# EAGLE library part MS51XB9AE (library pimoroni-ics)
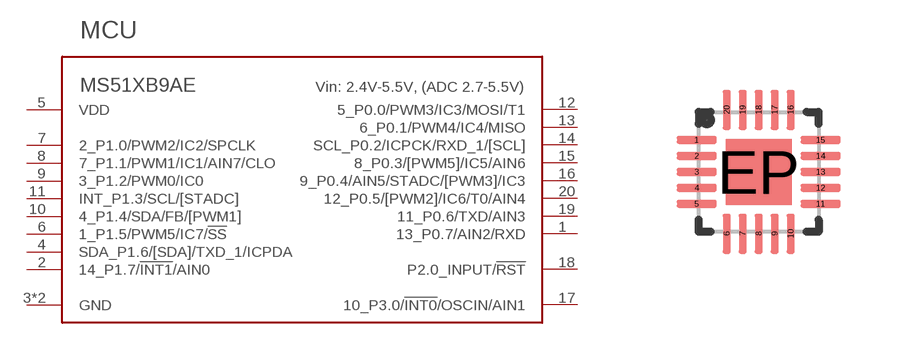
[diagram p64: symbol with the pads of QFN-20-0.4MM; footprint QFN-20-0.4MM]

Designator prefix MCU

## MS51XB9AE  [QFN-20-0.4MM]
1  13_P0.7/AIN2/RXD
2  14_P1.7/!INT1!/AIN0
3  GND
4  SDA_P1.6/[SDA]/TXD_1/ICPDA
5  VDD
6  1_P1.5/PWM5/IC7/!SS
7  2_P1.0/PWM2/IC2/SPCLK
8  7_P1.1/PWM1/IC1/AIN7/CLO
9  3_P1.2/PWM0/IC0
10  4_P1.4/SDA/FB/[PWM1]
11  INT_P1.3/SCL/[STADC]
12  5_P0.0/PWM3/IC3/MOSI/T1
13  6_P0.1/PWM4/IC4/MISO
14  SCL_P0.2/ICPCK/RXD_1/[SCL]
15  8_P0.3/[PWM5]/IC5/AIN6
16  9_P0.4/AIN5/STADC/[PWM3]/IC3
17  10_P3.0/!INT0!/OSCIN/AIN1
18  P2.0_INPUT/!RST
19  11_P0.6/TXD/AIN3
20  12_P0.5/[PWM2]/IC6/T0/AIN4
EP  GND

## Footprint QFN-20-0.4MM (pad centres in mm)
smd 1 x 0.2: 1 -1.55,0.8; 2 -1.55,0.4; 3 -1.55,0; 4 -1.55,-0.4; 5 -1.55,-0.8; 11 1.55,-0.8; 12 1.55,-0.4; 13 1.55,0; 14 1.55,0.4; 15 1.55,0.8
smd 0.2 x 1: 6 -0.8,-1.55; 7 -0.4,-1.55; 8 0,-1.55; 9 0.4,-1.55; 10 0.8,-1.55; 16 0.8,1.55; 17 0.4,1.55; 18 0,1.55; 19 -0.4,1.55; 20 -0.8,1.55
smd 1.65 x 1.65: EP 0,0